# EAGLE library part MPL3115A2 (library postalecki)
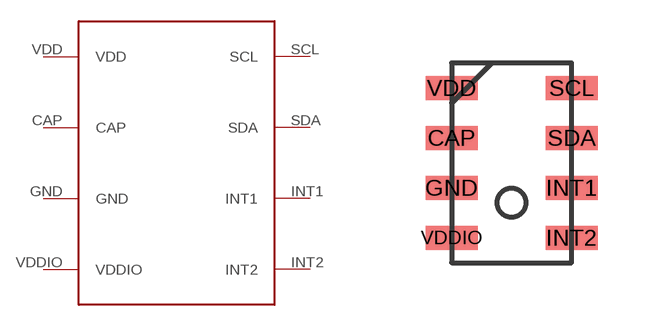
[diagram p0: symbol with the pads of LGA-8; footprint LGA-8]

Designator prefix -

## MPL3115A2  [LGA-8]
CAP  CAP
GND  GND
INT1  INT1
INT2  INT2
SCL  SCL
SDA  SDA
VDD  VDD
VDDIO  VDDIO

## Footprint LGA-8 (pad centres in mm)
smd 1.3 x 0.6: CAP 0,3.125; GND 0,1.875; INT1 3,1.875; INT2 3,0.625; SCL 3,4.375; SDA 3,3.125; VDD 0,4.375; VDDIO 0,0.625